# EAGLE library part 10M04 (library lichtenstein_onion)
10M04SCE144 Footprint Proven edit this description Auto generated by make-symbol-device-package-bsdl.ulp Rev. 44 Source: 10M04SCE144.bsd
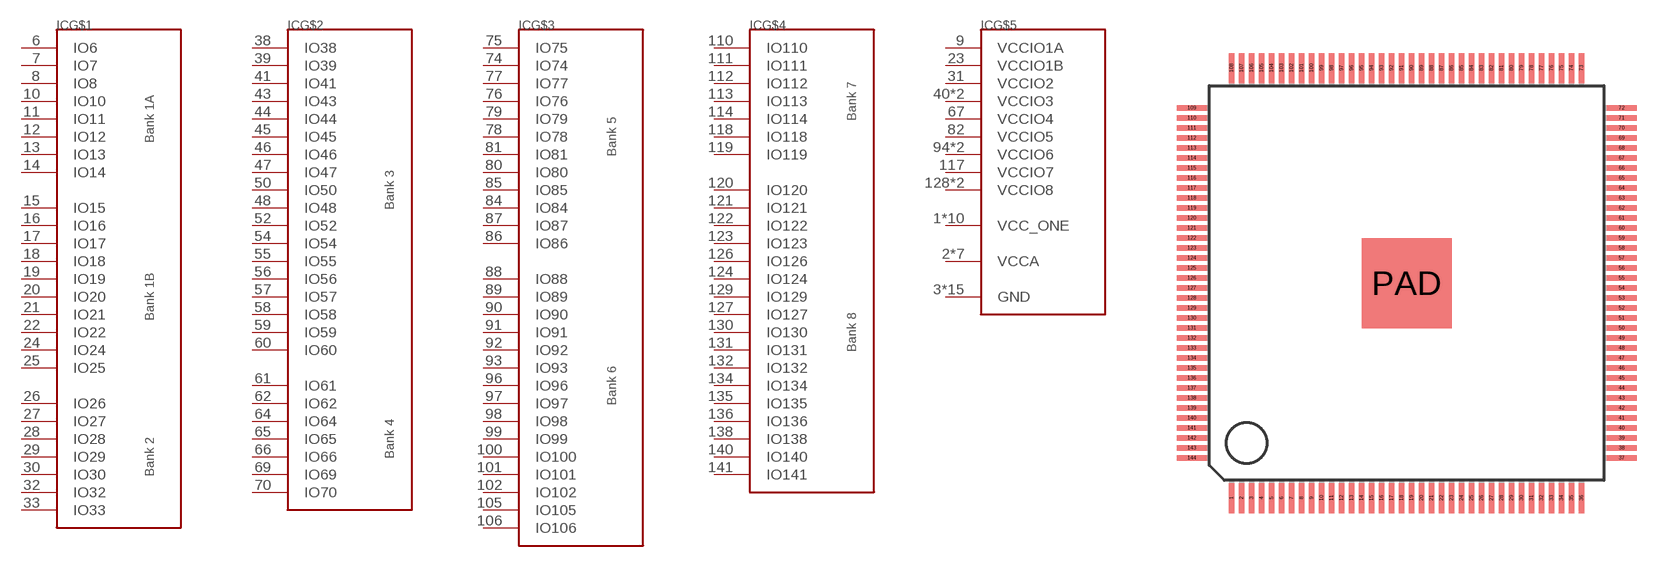
[diagram p7: symbol with the pads of EQFP144; footprint EQFP144]

Designator prefix IC; gates G$1=10M04-B12 G$2=10M04-B34 G$3=10M04-B56 G$4=10M04-B78 G$5=10M04-PWR

## 10M04EQFP144  [EQFP144]
1  G$5:VCC_ONE  pwr
2  G$5:VCCA  pwr
3  G$5:GND  pwr
4  G$5:GND  pwr
5  G$5:VCCA  pwr
6  G$1:IO6
7  G$1:IO7
8  G$1:IO8
9  G$5:VCCIO1A  pwr
10  G$1:IO10
11  G$1:IO11
12  G$1:IO12
13  G$1:IO13
14  G$1:IO14
15  G$1:IO15
16  G$1:IO16
17  G$1:IO17
18  G$1:IO18
19  G$1:IO19
20  G$1:IO20
21  G$1:IO21
22  G$1:IO22
23  G$5:VCCIO1B  pwr
24  G$1:IO24
25  G$1:IO25
26  G$1:IO26
27  G$1:IO27
28  G$1:IO28
29  G$1:IO29
30  G$1:IO30
31  G$5:VCCIO2  pwr
32  G$1:IO32
33  G$1:IO33
34  G$5:VCCA  pwr
35  G$5:VCCA  pwr
36  G$5:VCC_ONE  pwr
37  G$5:VCC_ONE  pwr
38  G$2:IO38
39  G$2:IO39
40  G$5:VCCIO3  pwr
41  G$2:IO41
42  G$5:GND  pwr
43  G$2:IO43
44  G$2:IO44
45  G$2:IO45
46  G$2:IO46
47  G$2:IO47
48  G$2:IO48
49  G$5:VCCIO3  pwr
50  G$2:IO50
51  G$5:VCC_ONE  pwr
52  G$2:IO52
53  G$5:GND  pwr
54  G$2:IO54
55  G$2:IO55
56  G$2:IO56
57  G$2:IO57
58  G$2:IO58
59  G$2:IO59
60  G$2:IO60
61  G$2:IO61
62  G$2:IO62
63  G$5:GND  pwr
64  G$2:IO64
65  G$2:IO65
66  G$2:IO66
67  G$5:VCCIO4  pwr
68  G$5:GND  pwr
69  G$2:IO69
70  G$2:IO70
71  G$5:VCCA  pwr
72  G$5:VCC_ONE  pwr
73  G$5:VCC_ONE  pwr
74  G$3:IO74
75  G$3:IO75
76  G$3:IO76
77  G$3:IO77
78  G$3:IO78
79  G$3:IO79
80  G$3:IO80
81  G$3:IO81
82  G$5:VCCIO5  pwr
83  G$5:GND  pwr
84  G$3:IO84
85  G$3:IO85
86  G$3:IO86
87  G$3:IO87
88  G$3:IO88
89  G$3:IO89
90  G$3:IO90
91  G$3:IO91
92  G$3:IO92
93  G$3:IO93
94  G$5:VCCIO6  pwr
95  G$5:GND  pwr
96  G$3:IO96
97  G$3:IO97
98  G$3:IO98
99  G$3:IO99
100  G$3:IO100
101  G$3:IO101
102  G$3:IO102
103  G$5:VCCIO6  pwr
104  G$5:GND  pwr
105  G$3:IO105
106  G$3:IO106
107  G$5:VCCA  pwr
108  G$5:VCC_ONE  pwr
109  G$5:VCC_ONE  pwr
110  G$4:IO110
111  G$4:IO111
112  G$4:IO112
113  G$4:IO113
114  G$4:IO114
115  G$5:VCC_ONE  pwr
116  G$5:GND  pwr
117  G$5:VCCIO7  pwr
118  G$4:IO118
119  G$4:IO119
120  G$4:IO120
121  G$4:IO121
122  G$4:IO122
123  G$4:IO123
124  G$4:IO124
125  G$5:GND  pwr
126  G$4:IO126
127  G$4:IO127
128  G$5:VCCIO8  pwr
129  G$4:IO129
130  G$4:IO130
131  G$4:IO131
132  G$4:IO132
133  G$5:GND  pwr
134  G$4:IO134
135  G$4:IO135
136  G$4:IO136
137  G$5:GND  pwr
138  G$4:IO138
139  G$5:VCCIO8  pwr
140  G$4:IO140
141  G$4:IO141
142  G$5:GND  pwr
143  G$5:VCCA  pwr
144  G$5:VCC_ONE  pwr
PAD  G$5:GND  pwr

## Footprint EQFP144 (pad centres in mm)
Thin Quad Flat Pack
smd 0.27 x 1.5: 1 -8.75,-10.75; 2 -8.25,-10.75; 3 -7.75,-10.75; 4 -7.25,-10.75; 5 -6.75,-10.75; 6 -6.25,-10.75; 7 -5.75,-10.75; 8 -5.25,-10.75; 9 -4.75,-10.75; 10 -4.25,-10.75; 11 -3.75,-10.75; 12 -3.25,-10.75; 13 -2.75,-10.75; 14 -2.25,-10.75; 15 -1.75,-10.75; 16 -1.25,-10.75; 17 -0.75,-10.75; 18 -0.25,-10.75; 19 0.25,-10.75; 20 0.75,-10.75; 21 1.25,-10.75; 22 1.75,-10.75; 23 2.25,-10.75; 24 2.75,-10.75; 25 3.25,-10.75; 26 3.75,-10.75; 27 4.25,-10.75; 28 4.75,-10.75; 29 5.25,-10.75; 30 5.75,-10.75; 31 6.25,-10.75; 32 6.75,-10.75; 33 7.25,-10.75; 34 7.75,-10.75; 35 8.25,-10.75; 36 8.75,-10.75; 73 8.75,10.75; 74 8.25,10.75; 75 7.75,10.75; 76 7.25,10.75; 77 6.75,10.75; 78 6.25,10.75; 79 5.75,10.75; 80 5.25,10.75; 81 4.75,10.75; 82 4.25,10.75; 83 3.75,10.75; 84 3.25,10.75; 85 2.75,10.75; 86 2.25,10.75; 87 1.75,10.75; 88 1.25,10.75; 89 0.75,10.75; 90 0.25,10.75; 91 -0.25,10.75; 92 -0.75,10.75; 93 -1.25,10.75; 94 -1.75,10.75; 95 -2.25,10.75; 96 -2.75,10.75; 97 -3.25,10.75; 98 -3.75,10.75; 99 -4.25,10.75; 100 -4.75,10.75; 101 -5.25,10.75; 102 -5.75,10.75; 103 -6.25,10.75; 104 -6.75,10.75; 105 -7.25,10.75; 106 -7.75,10.75; 107 -8.25,10.75; 108 -8.75,10.75
smd 1.5 x 0.27: 37 10.75,-8.75; 38 10.75,-8.25; 39 10.75,-7.75; 40 10.75,-7.25; 41 10.75,-6.75; 42 10.75,-6.25; 43 10.75,-5.75; 44 10.75,-5.25; 45 10.75,-4.75; 46 10.75,-4.25; 47 10.75,-3.75; 48 10.75,-3.25; 49 10.75,-2.75; 50 10.75,-2.25; 51 10.75,-1.75; 52 10.75,-1.25; 53 10.75,-0.75; 54 10.75,-0.25; 55 10.75,0.25; 56 10.75,0.75; 57 10.75,1.25; 58 10.75,1.75; 59 10.75,2.25; 60 10.75,2.75; 61 10.75,3.25; 62 10.75,3.75; 63 10.75,4.25; 64 10.75,4.75; 65 10.75,5.25; 66 10.75,5.75; 67 10.75,6.25; 68 10.75,6.75; 69 10.75,7.25; 70 10.75,7.75; 71 10.75,8.25; 72 10.75,8.75; 109 -10.75,8.75; 110 -10.75,8.25; 111 -10.75,7.75; 112 -10.75,7.25; 113 -10.75,6.75; 114 -10.75,6.25; 115 -10.75,5.75; 116 -10.75,5.25; 117 -10.75,4.75; 118 -10.75,4.25; 119 -10.75,3.75; 120 -10.75,3.25; 121 -10.75,2.75; 122 -10.75,2.25; 123 -10.75,1.75; 124 -10.75,1.25; 125 -10.75,0.75; 126 -10.75,0.25; 127 -10.75,-0.25; 128 -10.75,-0.75; 129 -10.75,-1.25; 130 -10.75,-1.75; 131 -10.75,-2.25; 132 -10.75,-2.75; 133 -10.75,-3.25; 134 -10.75,-3.75; 135 -10.75,-4.25; 136 -10.75,-4.75; 137 -10.75,-5.25; 138 -10.75,-5.75; 139 -10.75,-6.25; 140 -10.75,-6.75; 141 -10.75,-7.25; 142 -10.75,-7.75; 143 -10.75,-8.25; 144 -10.75,-8.75
smd 4.5 x 4.5: PAD 0,0